# EAGLE library part TMP141 (library CEDT_JANUARY_2015_v6)
TMP141 Digital Out Temperature Sensor with Single-Wire SensorPathTM Bus Datasheet <http://www.ti.com/lit/ds/symlink/tmp141.pdf>
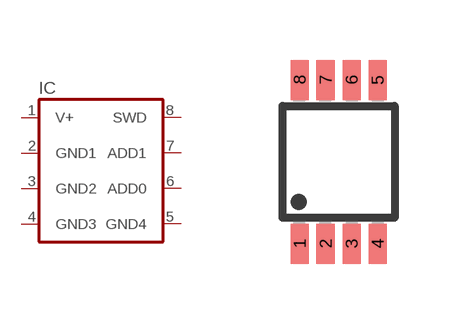
[diagram p72: symbol with the pads of MSOP8; footprint MSOP8]

Designator prefix IC

## TMP141  [MSOP8]
1  V+  in
2  GND1  pwr
3  GND2  in
4  GND3  pwr
5  GND4  pwr
6  ADD0  in
7  ADD1  in
8  SWD  out

## Footprint MSOP8 (pad centres in mm)
smd 0.45 x 1: 1 0.295,0.49; 2 0.945,0.49; 3 1.595,0.49; 4 2.245,0.49; 5 2.245,4.59; 6 1.595,4.59; 7 0.945,4.59; 8 0.295,4.59